# EAGLE library part ARDUCAM (library arducam)
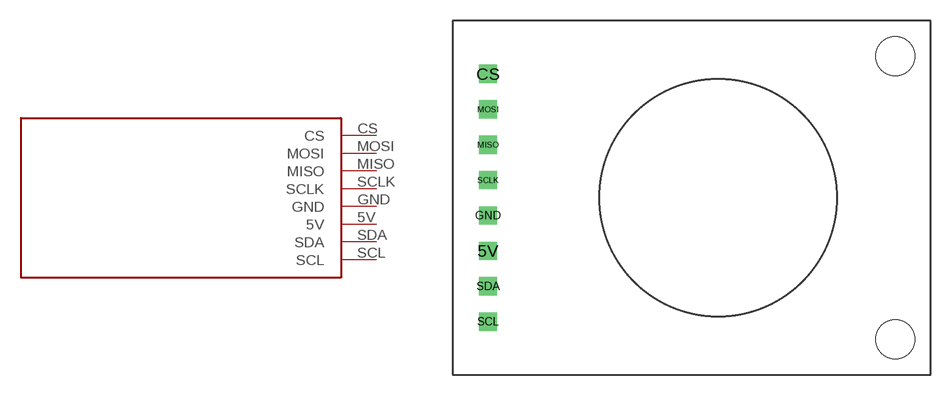
[diagram p0: symbol with the pads of ARDUCAM; footprint ARDUCAM]

Designator prefix -

## ARDUCAM  [ARDUCAM]
5V  5V
CS  CS
GND  GND
MISO  MISO
MOSI  MOSI
SCL  SCL
SCLK  SCLK
SDA  SDA

## Footprint ARDUCAM (pad centres in mm)
drill 0.8 square: 5V 2.54,7.62; CS 2.54,20.32; GND 2.54,10.16; MISO 2.54,15.24; MOSI 2.54,17.78; SCL 2.54,2.54; SCLK 2.54,12.7; SDA 2.54,5.08
hole 2.8 at 31.75,21.59
hole 2.8 at 31.75,1.27